# Altium footprint library PcbLib.PcbLib: 45 footprints (part 1 of 3)
Each footprint in its own frame and in the unit in brackets; x right, y up, seen from the top. Pads: shape width x height; smd on the part's side, far side on the other; paste and mask are expansions set on the pad; w line width, h text height; cw(c..) or ccw(c..) is an arc to the next point about the centre after c.
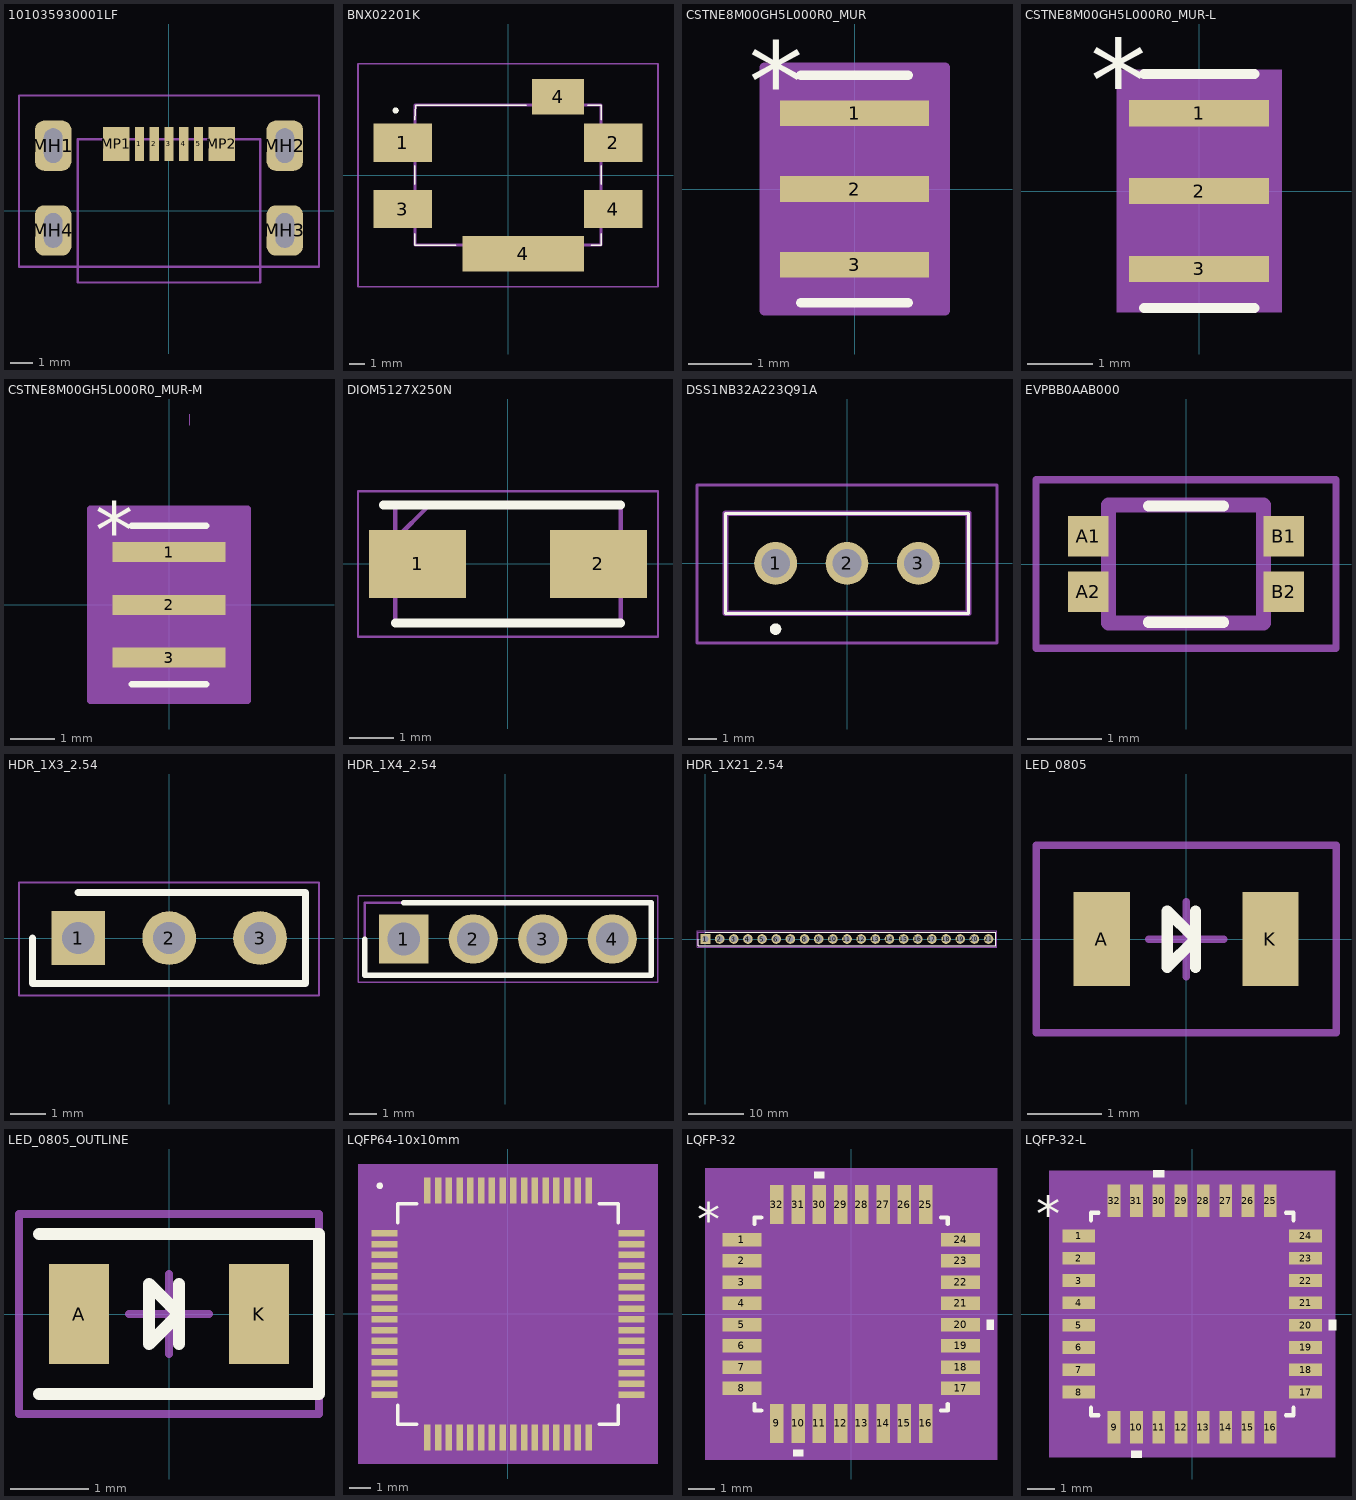
[diagram p0: the footprints below, top view; thin cyan lines are the x and y axes]

## 101035930001LF [mm]
pads (11):
  rect 0.4x1.5 smd: 1(-1.3,2.95) 2(-0.65,2.95) 3(0,2.95) 4(0.65,2.95) 5(1.3,2.95)
  rrect50% 1.6x2.21 hole 1.524 slot 0.813 at 0 deg: MH1(-5.1,2.87) MH2(5.1,2.87) MH3(5.1,-0.864) MH4(-5.1,-0.864)
  rect 1.15x1.5 smd: MP1(-2.325,2.95) MP2(2.325,2.95)
Mechanical 13:
  lines w0.1: -4.02,-3.15 4.02,-3.15 4.02,3.15 -4.02,3.15 -4.02,-3.15
Mechanical 15:
  lines w0.1: -6.604,-2.464 6.604,-2.464 6.604,5.075 -6.604,5.075 -6.604,-2.464
3D body "10103593-0001lf.stp": height 2.03, standoff -0.91, extent -5.25,-3.475 5.25,3.375

## BNX02201K [mm]
pads (6):
  rect 3.8x2.5 smd: 1(-6.85,2.1) 2(6.85,2.1) 3(-6.85,-2.2) 4(6.85,-2.2)
  rect 7.9x2.3 smd: 4(1,-5.1)
  rect 3.4x2.3 smd: 4(3.25,5.1)
Top Overlay:
  lines w0.1: -6.05,-3.8 -6.05,-4.55 -3.4,-4.55 ; -6.05,-0.6 -6.05,0.6 ; -6.05,3.6 -6,4.55 1.2,4.55 ; 5.2,4.55 6.05,4.55 6.05,3.6 ; 5.4,-4.55 6.05,-4.55 6.05,-3.8 ; 6.05,-0.6 6.05,0.6
  lines w0.2: -7.4,4.2 ccw(c-7.3,4.2) -7.2,4.2 ccw(c-7.3,4.2) -7.4,4.2
Mechanical 13:
  lines w0.2: -6.05,-4.55 -6.05,4.55 6.05,4.55 6.05,-4.55 -6.05,-4.55
Mechanical 15:
  lines w0.1: -9.75,-7.25 -9.75,7.25 9.75,7.25 9.75,-7.25 -9.75,-7.25
3D body "BNX022-01L.stp": height 3.4, standoff 0, extent -8.5,-6.02 8.5,6.02

## CSTNE8M00GH5L000R0_MUR [mil]
pads (3):
  rect 93x16 smd paste+0 mask+0: 1(0,47.24) 2(0,0) 3(0,-47.24)
Top Overlay:
  lines w6: -33.5,-71 33.5,-71 ; -33.5,71 33.5,71
  text "*" at -66,42.24 h50
Mechanical 5:
  region: 54,-73.5 -54,-73.5 -54,73.5 54,73.5
Mechanical 13:
  lines w1: -28.5,56 -18.5,66 ; -28.5,-66 -28.5,-47.24 -28.5,0 -28.5,47.24 -28.5,66 28.5,66 28.5,47.24 28.5,0 28.5,-47.24 28.5,-66 -28.5,-66
  text "*" at -21,16 h50
Mechanical 15:
  region: 56.5,-76 -56.5,-76 -56.5,76 56.5,76
  region: 28.5,-66 -28.5,-66 -28.5,66 28.5,66
  lines w6: -56.5,-76 -56.5,76 56.5,76 56.5,-76 -56.5,-76
3D body "CSTNE8M00GH5L000R0.STEP": height 31.5, standoff 0, extent -25.6,-62.99 25.58,62.99

## CSTNE8M00GH5L000R0_MUR-L [mil]
pads (3):
  rect 85x16 smd paste+0 mask+0: 1(0,47.24) 2(0,0) 3(0,-47.24)
Top Overlay:
  lines w6: -33.5,-71 33.5,-71 ; -33.5,71 33.5,71
  text "*" at -66,42.24 h50
Mechanical 5:
  region: 50,-73.5 -50,-73.5 -50,73.5 50,73.5
Mechanical 13:
  lines w1: -28.5,56 -18.5,66 ; -28.5,-66 28.5,-66 28.5,-47.24 28.5,0 28.5,47.24 28.5,66 -28.5,66 -28.5,47.24 -28.5,0 -28.5,-47.24 -28.5,-66
  text "*" at -21,16 h50
Mechanical 15:
  region: 28.5,-66 -28.5,-66 -28.5,66 28.5,66
  region: 46.5,-70 -46.5,-70 -46.5,70 46.5,70
  lines w6: -46.5,-70 46.5,-70 46.5,70 -46.5,70 -46.5,-70
3D body "CSTNE8M00GH5L000R0.STEP": height 31.5, standoff 0, extent -25.6,-62.99 25.58,62.99

## CSTNE8M00GH5L000R0_MUR-M [mil]
pads (3):
  rect 101x18 smd paste+0 mask+0: 1(0,47.24) 2(0,0) 3(0,-47.24)
Top Overlay:
  lines w6: -33.5,-71 33.5,-71 ; -33.5,71 33.5,71
  text "*" at -66,42.24 h50
Mechanical 5:
  region: 58,-73.5 -58,-73.5 -58,73.5 58,73.5
Mechanical 7:
  lines w1: 18.5,161 18.5,171
Mechanical 13:
  lines w1: -28.5,56 -18.5,66 ; -28.5,-66 -28.5,-47.24 -28.5,0 -28.5,47.24 -28.5,66 28.5,66 28.5,47.24 28.5,0 28.5,-47.24 28.5,-66 -28.5,-66
  text "*" at -21,16 h50
Mechanical 15:
  region: 70.5,-86 -70.5,-86 -70.5,86 70.5,86
  region: 28.5,-66 -28.5,-66 -28.5,66 28.5,66
  lines w6: -70.5,-86 -70.5,86 70.5,86 70.5,-86 -70.5,-86
3D body "CSTNE8M00GH5L000R0.STEP": height 31.5, standoff 0, extent -25.6,-62.99 25.58,62.99

## DIOM5127X250N [mm]
pads (2):
  rect 2.2x1.55 smd: 1(-2.05,0) 2(2.05,0)
Top Overlay:
  lines w0.2: -2.825,1.335 2.555,1.335 ; -2.555,-1.335 2.555,-1.335
Mechanical 13:
  lines w0.1: -2.555,0.56 -1.78,1.335 ; -2.555,-1.335 2.555,-1.335 2.555,1.335 -2.555,1.335 -2.555,-1.335
Mechanical 15:
  lines w0.05: -3.4,-1.65 3.4,-1.65 3.4,1.65 -3.4,1.65 -3.4,-1.65
3D body "824500641.stp": height 2.5, standoff 0, extent -2.555,-1.335 2.555,1.335

## DSS1NB32A223Q91A [mm]
pads (3):
  round 1.5 hole 1: 1(-2.5,0) 2(0,0) 3(2.5,0)
Top Overlay:
  lines w0.1: -4.25,-1.75 4.25,-1.75 4.25,1.75 -4.25,1.75 -4.25,-1.75
  lines w0.2: -2.6,-2.3 cw(c-2.5,-2.3) -2.4,-2.3 cw(c-2.5,-2.3) -2.6,-2.3
Mechanical 13:
  lines w0.2: -4.25,-1.75 4.25,-1.75 4.25,1.75 -4.25,1.75 -4.25,-1.75
Mechanical 15:
  lines w0.102: -5.25,-2.794 5.25,-2.794 5.25,2.75 -5.25,2.75 -5.25,-2.794
3D body "User Library-DSS6.sldprt": height 7.64, standoff -1.87, extent -3.77,-1.268 3.77,1.268

## EVPBB0AAB000 [mm]
pads (4):
  rect 0.55x0.55 smd: A1(-1.325,0.375) A2(-1.325,-0.375) B1(1.325,0.375) B2(1.325,-0.375)
Top Overlay:
  lines w0.152: -0.508,-0.787 0.508,-0.787 ; -0.508,0.787 0.508,0.787
Mechanical 13:
  lines w0.2: -1.05,-0.8 -1.05,0.8 1.05,0.8 1.05,-0.8 -1.05,-0.8
Mechanical 15:
  lines w0.1: -2.032,-1.143 -2.032,1.143 2.032,1.143 2.032,-1.143 -2.032,-1.143
3D body "EVP-BB0AAB000.stp": height 0.45, standoff -0.05, extent -1.5,-0.9 1.5,0.9

## HDR_1X3_2.54 [mm] "Header connector 2.54mm"
pads (3):
  rect 1.5x1.5 hole 0.9: 1(-2.54,0)
  round 1.5 hole 0.9: 2(0,0) 3(2.54,0)
Top Overlay:
  lines w0.2: -3.81,0 -3.81,-1.27 3.81,-1.27 3.81,1.27 -2.54,1.27
Mechanical 15:
  lines w0.05: -4.191,-1.6 4.185,-1.6 4.185,1.55 -4.191,1.55 -4.191,-1.6
3D body "DS1021-1x3SF11.stp": height 8.6, standoff -3, extent -3.81,-1.27 3.81,1.27

## HDR_1X4_2.54 [mm] "Header connector 2.54mm"
pads (4):
  rect 1.8x1.8 hole 1.2: 1(-3.708,-0.025)
  round 1.8 hole 1.2: 2(-1.168,-0.025) 3(1.372,-0.025) 4(3.912,-0.025)
Top Overlay:
  lines w0.2: -5.128,-0.025 -5.128,-1.35 5.332,-1.35 5.332,1.3 -3.708,1.3
Mechanical 13:
  lines w0.1: -5.128,-1.35 5.332,-1.35 5.332,1.3 -5.128,1.3 -5.128,-1.35
Mechanical 15:
  lines w0.05: -5.378,-1.6 5.582,-1.6 5.582,1.55 -5.378,1.55 -5.378,-1.6
3D body "G800W304018EU.stp": height 8.95, standoff -3.2, extent -4.953,-1.27 5.207,1.23

## HDR_1X21_2.54 [mm] "Header connector 2.54mm"
pads (21):
  rect 1.725x1.725 hole 1.15: 1(0,0)
  round 1.725 hole 1.15: 2(2.54,0) 3(5.08,0) 4(7.62,0) 5(10.16,0) 6(12.7,0) 7(15.24,0) 8(17.78,0) 9(20.32,0) 10(22.86,0) 11(25.4,0) 12(27.94,0) 13(30.48,0) 14(33.02,0) 15(35.56,0) 16(38.1,0) 17(40.64,0) 18(43.18,0) 19(45.72,0) 20(48.26,0) 21(50.8,0)
Top Overlay:
  lines w0.2: -1.27,0 -1.27,-1.205 52.07,-1.205 52.07,1.205 0,1.205
Mechanical 13:
  lines w0.1: -1.27,-1.205 52.07,-1.205 52.07,1.205 -1.27,1.205 -1.27,-1.205
Mechanical 15:
  lines w0.05: -1.52,-1.455 52.32,-1.455 52.32,1.455 -1.52,1.455 -1.52,-1.455
3D body "68001-121HLF.stp": height 8.58, standoff -3.3, extent -1.27,-1.205 52.07,1.205

## LED_0805 [mil] "LED diode, 0805, 599 Series"
pads (2):
  rect 30x50 smd: A(-45,0) K(45,0)
Top Overlay:
  lines w6: 5,-15 5,15 ; -10,-15 5,0 -10,15 -10,-15
Mechanical 15:
  lines w4: -20,0 20,0 ; 0,-20 0,20 ; -80,-50 80,-50 80,50 -80,50 -80,-50
3D body "0805_single.stp": height 28, standoff -0.5, extent -40.5,-24.99 40.5,25

## LED_0805_OUTLINE [mil] "LED diode, 0805, 599 Series"
pads (2):
  rect 30x50 smd: A(-45,0) K(45,0)
Top Overlay:
  lines w6: -65,-40 75,-40 75,40 -65,40 ; 5,-15 5,15 ; -10,-15 -10,15 5,0 -10,-15
Mechanical 15:
  lines w4: -20,0 20,0 ; 0,-20 0,20 ; -75,-50 75,-50 75,50 -75,50 -75,-50
3D body "0805_single.stp": height 28, standoff -0.5, extent -40.5,-24.99 40.5,25

## LQFP64-10x10mm [mm]
pads (64):
  rect 1.194x0.305 smd paste+0 mask+0: 1(-5.75,3.75) 2(-5.75,3.25) 3(-5.75,2.75) 4(-5.75,2.25) 5(-5.75,1.75) 6(-5.75,1.25) 7(-5.75,0.75) 8(-5.75,0.25) 9(-5.75,-0.25) 10(-5.75,-0.75) 11(-5.75,-1.25) 12(-5.75,-1.75) 13(-5.75,-2.25) 14(-5.75,-2.75) 15(-5.75,-3.25) 16(-5.75,-3.75) 33(5.75,-3.75) 34(5.75,-3.25) 35(5.75,-2.75) 36(5.75,-2.25) 37(5.75,-1.75) 38(5.75,-1.25) 39(5.75,-0.75) 40(5.75,-0.25) 41(5.75,0.25) 42(5.75,0.75) 43(5.75,1.25) 44(5.75,1.75) 45(5.75,2.25) 46(5.75,2.75) 47(5.75,3.25) 48(5.75,3.75)
  rect 0.305x1.194 smd paste+0 mask+0: 17(-3.75,-5.75) 18(-3.25,-5.75) 19(-2.75,-5.75) 20(-2.25,-5.75) 21(-1.75,-5.75) 22(-1.25,-5.75) 23(-0.75,-5.75) 24(-0.25,-5.75) 25(0.25,-5.75) 26(0.75,-5.75) 27(1.25,-5.75) 28(1.75,-5.75) 29(2.25,-5.75) 30(2.75,-5.75) 31(3.25,-5.75) 32(3.75,-5.75) 49(3.75,5.75) 50(3.25,5.75) 51(2.75,5.75) 52(2.25,5.75) 53(1.75,5.75) 54(1.25,5.75) 55(0.75,5.75) 56(0.25,5.75) 57(-0.25,5.75) 58(-0.75,5.75) 59(-1.25,5.75) 60(-1.75,5.75) 61(-2.25,5.75) 62(-2.75,5.75) 63(-3.25,5.75) 64(-3.75,5.75)
Top Overlay:
  circle w0.152: c-5.969,5.969 r0.076
  lines w0.152: -5.131,-4.234 -5.131,-5.131 -4.234,-5.131 ; -5.131,4.234 -5.131,5.131 -4.234,5.131 ; 4.234,-5.131 5.131,-5.131 5.131,-4.234 ; 4.234,5.131 5.131,5.131 5.131,4.234
Mechanical 5:
  region: 6.982,-6.982 -6.982,-6.982 -6.982,6.982 6.982,6.982
Mechanical 13:
  circle w0: c-4.518,3.75 r0.076
  lines w0.025: -5.004,3.734 -3.734,5.004 ; -5.004,-5.004 -5.004,5.004 5.004,5.004 5.004,-5.004 -5.004,-5.004
Mechanical 15:
  region: -4.258,-5.258 -5.258,-5.258 -5.258,-4.258 -6.855,-4.258 -6.855,4.258 -5.258,4.258 -5.258,5.258 -4.258,5.258 -4.258,6.855 4.258,6.855 4.258,5.258 5.258,5.258 5.258,4.258 6.855,4.258 6.855,-4.258 5.258,-4.258 5.258,-5.258 4.258,-5.258 4.258,-6.855 -4.258,-6.855
  lines w0.152: -6.855,-4.258 -6.855,4.258 -5.258,4.258 -5.258,5.258 -4.258,5.258 -4.258,6.855 4.258,6.855 4.258,5.258 5.258,5.258 5.258,4.258 6.855,4.258 6.855,-4.258 5.258,-4.258 5.258,-5.258 4.258,-5.258 4.258,-6.855 -4.258,-6.855 -4.258,-5.258 -5.258,-5.258 -5.258,-4.258 -6.855,-4.258
3D body "LQFP64-10x10mm.step": height 1.6, standoff 0, extent -5.997,-5.997 5.997,5.997
3D body: height 0.25, standoff 0, extent 0,0 0.254,0.254

## LQFP-32 [mil]
pads (32):
  rect 58x20 smd paste+0 mask+0: 1(-162,110.24) 2(-162,78.74) 3(-162,47.24) 4(-162,15.75) 5(-162,-15.75) 6(-162,-47.24) 7(-162,-78.74) 8(-162,-110.24) 17(162,-110.24) 18(162,-78.74) 19(162,-47.24) 20(162,-15.75) 21(162,15.75) 22(162,47.24) 23(162,78.74) 24(162,110.24)
  rect 20x58 smd paste+0 mask+0: 9(-110.24,-162) 10(-78.74,-162) 11(-47.24,-162) 12(-15.75,-162) 13(15.75,-162) 14(47.24,-162) 15(78.74,-162) 16(110.24,-162) 25(110.24,162) 26(78.74,162) 27(47.24,162) 28(15.75,162) 29(-15.75,162) 30(-47.24,162) 31(-78.74,162) 32(-110.24,162)
Top Overlay:
  region: -39.74,201 -54.74,201 -54.74,211 -39.74,211
  region: 201,-8.25 211,-8.25 211,-23.25 201,-23.25
  region: -71.24,-201 -86.24,-201 -86.24,-211 -71.24,-211
  lines w6: -143,-133.34 -143,-143 -133.34,-143 ; -143,133.34 -143,143 -133.34,143 ; 133.34,-143 143,-143 143,-133.34 ; 133.34,143 143,143 143,133.34
  text "*" at -228.5,115.98 h50
Mechanical 5:
  region: 216,-216 -216,-216 -216,216 216,216
Mechanical 13:
  lines w1: -138,88 -88,138 ; -177,-119.24 -138,-119.24 -138,-101.24 -177,-101.24 -177,-119.24 ; -177,-87.74 -138,-87.74 -138,-69.74 -177,-69.74 -177,-87.74 ; -177,-56.24 -138,-56.24 -138,-38.24 -177,-38.24 -177,-56.24 ; -177,-24.75 -138,-24.75 -138,-6.75 -177,-6.75 -177,-24.75 ; -177,6.75 -138,6.75 -138,24.75 -177,24.75 -177,6.75 ; -177,38.24 -138,38.24 -138,56.24 -177,56.24 -177,38.24 ; -177,69.74 -138,69.74 -138,87.74 -177,87.74 -177,69.74 ; -177,101.24 -138,101.24 -138,119.24 -177,119.24 -177,101.24 ; -138,-138 -138,138 138,138 138,-138 -138,-138 ; -119.24,-177 -101.24,-177 -101.24,-138 -119.24,-138 -119.24,-177 ; -119.24,138 -119.24,177 -101.24,177 -101.24,138 -119.24,138 ; -87.74,-177 -69.74,-177 -69.74,-138 -87.74,-138 -87.74,-177 ; -87.74,138 -87.74,177 -69.74,177 -69.74,138 -87.74,138 ; -56.24,-177 -38.24,-177 -38.24,-138 -56.24,-138 -56.24,-177 ; -56.24,138 -56.24,177 -38.24,177 -38.24,138 -56.24,138 ; -24.75,-177 -6.75,-177 -6.75,-138 -24.75,-138 -24.75,-177 ; -24.75,138 -24.75,177 -6.75,177 -6.75,138 -24.75,138 ; 6.75,-177 24.75,-177 24.75,-138 6.75,-138 6.75,-177 ; 6.75,138 6.75,177 24.75,177 24.75,138 6.75,138 ; 38.24,-177 56.24,-177 56.24,-138 38.24,-138 38.24,-177 ; 38.24,138 38.24,177 56.24,177 56.24,138 38.24,138 ; 69.74,-177 87.74,-177 87.74,-138 69.74,-138 69.74,-177 ; 69.74,138 69.74,177 87.74,177 87.74,138 69.74,138 ; 101.24,-177 119.24,-177 119.24,-138 101.24,-138 101.24,-177 ; 101.24,138 101.24,177 119.24,177 119.24,138 101.24,138 ; 138,-119.24 177,-119.24 177,-101.24 138,-101.24 138,-119.24 ; 138,-87.74 177,-87.74 177,-69.74 138,-69.74 138,-87.74 ; 138,-56.24 177,-56.24 177,-38.24 138,-38.24 138,-56.24 ; 138,-24.75 177,-24.75 177,-6.75 138,-6.75 138,-24.75 ; 138,6.75 177,6.75 177,24.75 138,24.75 138,6.75 ; 138,38.24 177,38.24 177,56.24 138,56.24 138,38.24 ; 138,69.74 177,69.74 177,87.74 138,87.74 138,69.74 ; 138,101.24 177,101.24 177,119.24 138,119.24 138,101.24
  text "*" at -135.5,100.98 h50
Mechanical 15:
  region: -130.24,-148 -148,-148 -148,-130.24 -201,-130.24 -201,130.24 -148,130.24 -148,148 -130.24,148 -130.24,201 130.24,201 130.24,148 148,148 148,130.24 201,130.24 201,-130.24 148,-130.24 148,-148 130.24,-148 130.24,-201 -130.24,-201
  lines w6: -201,-130.24 -201,130.24 -148,130.24 -148,148 -130.24,148 -130.24,201 130.24,201 130.24,148 148,148 148,130.24 201,130.24 201,-130.24 148,-130.24 148,-148 130.24,-148 130.24,-201 -130.24,-201 -130.24,-148 -148,-148 -148,-130.24 -201,-130.24
3D body: height 10, standoff 0, extent 0,0 10,10
3D body "LQFP-32.step": height 63.11, standoff 0, extent -177,-177 177.01,177.01

## LQFP-32-L [mil]
pads (32):
  rect 46x18 smd paste+0 mask+0: 1(-160,110.24) 2(-160,78.74) 3(-160,47.24) 4(-160,15.75) 5(-160,-15.75) 6(-160,-47.24) 7(-160,-78.74) 8(-160,-110.24) 17(160,-110.24) 18(160,-78.74) 19(160,-47.24) 20(160,-15.75) 21(160,15.75) 22(160,47.24) 23(160,78.74) 24(160,110.24)
  rect 18x46 smd paste+0 mask+0: 9(-110.24,-160) 10(-78.74,-160) 11(-47.24,-160) 12(-15.75,-160) 13(15.75,-160) 14(47.24,-160) 15(78.74,-160) 16(110.24,-160) 25(110.24,160) 26(78.74,160) 27(47.24,160) 28(15.75,160) 29(-15.75,160) 30(-47.24,160) 31(-78.74,160) 32(-110.24,160)
Top Overlay:
  region: -71.24,-193 -86.24,-193 -86.24,-203 -71.24,-203
  region: 193,-8.25 203,-8.25 203,-23.25 193,-23.25
  region: -39.74,193 -54.74,193 -54.74,203 -39.74,203
  lines w6: -143,-132.34 -143,-143 -132.34,-143 ; -143,132.34 -143,143 -132.34,143 ; 132.34,-143 143,-143 143,-132.34 ; 132.34,143 143,143 143,132.34
  text "*" at -220.5,115.98 h50
Mechanical 5:
  region: 202,-202 -202,-202 -202,202 202,202
Mechanical 13:
  lines w1: -138,88 -88,138 ; -177,-119.24 -177,-101.24 -138,-101.24 -138,-119.24 -177,-119.24 ; -177,-87.74 -177,-69.74 -138,-69.74 -138,-87.74 -177,-87.74 ; -177,-56.24 -177,-38.24 -138,-38.24 -138,-56.24 -177,-56.24 ; -177,-24.75 -177,-6.75 -138,-6.75 -138,-24.75 -177,-24.75 ; -177,6.75 -177,24.75 -138,24.75 -138,6.75 -177,6.75 ; -177,38.24 -177,56.24 -138,56.24 -138,38.24 -177,38.24 ; -177,69.74 -177,87.74 -138,87.74 -138,69.74 -177,69.74 ; -177,101.24 -177,119.24 -138,119.24 -138,101.24 -177,101.24 ; -138,-138 138,-138 138,138 -138,138 -138,-138 ; -119.24,-177 -119.24,-138 -101.24,-138 -101.24,-177 -119.24,-177 ; -119.24,138 -101.24,138 -101.24,177 -119.24,177 -119.24,138 ; -87.74,-177 -87.74,-138 -69.74,-138 -69.74,-177 -87.74,-177 ; -87.74,138 -69.74,138 -69.74,177 -87.74,177 -87.74,138 ; -56.24,-177 -56.24,-138 -38.24,-138 -38.24,-177 -56.24,-177 ; -56.24,138 -38.24,138 -38.24,177 -56.24,177 -56.24,138 ; -24.75,-177 -24.75,-138 -6.75,-138 -6.75,-177 -24.75,-177 ; -24.75,138 -6.75,138 -6.75,177 -24.75,177 -24.75,138 ; 6.75,-177 6.75,-138 24.75,-138 24.75,-177 6.75,-177 ; 6.75,138 24.75,138 24.75,177 6.75,177 6.75,138 ; 38.24,-177 38.24,-138 56.24,-138 56.24,-177 38.24,-177 ; 38.24,138 56.24,138 56.24,177 38.24,177 38.24,138 ; 69.74,-177 69.74,-138 87.74,-138 87.74,-177 69.74,-177 ; 69.74,138 87.74,138 87.74,177 69.74,177 69.74,138 ; 101.24,-177 101.24,-138 119.24,-138 119.24,-177 101.24,-177 ; 101.24,138 119.24,138 119.24,177 101.24,177 101.24,138 ; 138,-119.24 138,-101.24 177,-101.24 177,-119.24 138,-119.24 ; 138,-87.74 138,-69.74 177,-69.74 177,-87.74 138,-87.74 ; 138,-56.24 138,-38.24 177,-38.24 177,-56.24 138,-56.24 ; 138,-24.75 138,-6.75 177,-6.75 177,-24.75 138,-24.75 ; 138,6.75 138,24.75 177,24.75 177,6.75 138,6.75 ; 138,38.24 138,56.24 177,56.24 177,38.24 138,38.24 ; 138,69.74 138,87.74 177,87.74 177,69.74 138,69.74 ; 138,101.24 138,119.24 177,119.24 177,101.24 138,101.24
  text "*" at -135.5,100.98 h50
Mechanical 15:
  region: -123.24,-142 -142,-142 -142,-123.24 -187,-123.24 -187,123.24 -142,123.24 -142,142 -123.24,142 -123.24,187 123.24,187 123.24,142 142,142 142,123.24 187,123.24 187,-123.24 142,-123.24 142,-142 123.24,-142 123.24,-187 -123.24,-187
  lines w6: -187,-123.24 -142,-123.24 -142,-142 -123.24,-142 -123.24,-187 123.24,-187 123.24,-142 142,-142 142,-123.24 187,-123.24 187,123.24 142,123.24 142,142 123.24,142 123.24,187 -123.24,187 -123.24,142 -142,142 -142,123.24 -187,123.24 -187,-123.24
3D body: height 10, standoff 0, extent 0,0 10,10